# EAGLE library part DAC (library voltageReg)
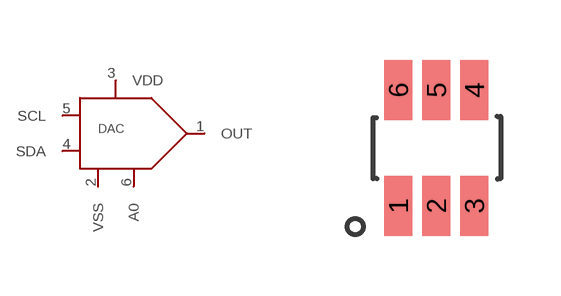
[diagram p1: symbol with the pads of SOT-23-6; footprint SOT-23-6]

Designator prefix -

## DAC  [SOT-23-6]
1  OUT
2  VSS
3  VDD
4  SDA
5  SCL
6  A0

## Footprint SOT-23-6 (pad centres in mm)
smd 0.7 x 1.5: 1 0,0; 2 0.95,0; 3 1.9,0; 4 1.9,2.9; 5 0.95,2.9; 6 0,2.9